# Altium integrated library TP5100.IntLib: 1 symbol
Pins are listed as number, name and electrical type; pins without a type are passive.

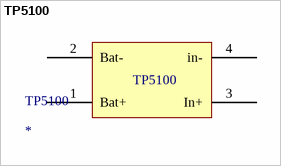
[diagram p0: symbol TP5100]

## TP5100
designator TP5100
footprint TP5100
pins: 1 Bat+, 2 Bat-, 3 In+, 4 in-